# EAGLE library part SKY13405-490LF (library low-gain-radio)
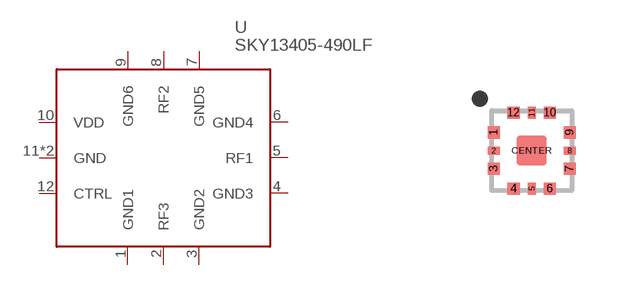
[diagram p5: symbol with the pads of SKY13405-490LF; footprint SKY13405-490LF]

Designator prefix -

## SKY13405-490LF  [SKY13405-490LF]
1  GND1  pwr
2  RF3
3  GND2  pwr
4  GND3  pwr
5  RF1
6  GND4  pwr
7  GND5  pwr
8  RF2
9  GND6  pwr
10  VDD  pwr
11  GND  pwr
12  CTRL  in
CENTER  GND  pwr

## Footprint SKY13405-490LF (pad centres in mm)
smd 0.3 x 0.31: 1 -0.95,0.455; 3 -0.95,-0.455; 7 0.95,-0.455; 9 0.95,0.455
smd 0.3 x 0.2: 2 -0.95,0; 8 0.95,0
smd 0.31 x 0.3: 4 -0.455,-0.95; 6 0.455,-0.95; 10 0.455,0.95; 12 -0.455,0.95
smd 0.2 x 0.3: 5 0,-0.95; 11 0,0.95
smd 0.75 x 0.75: CENTER 0,0